# EAGLE library part W25Q16BV (library Semiconductors > Integrated Circuits - ICs > Memory ICs > Flash)
EEPROM 4 Mbit SPI Serial Flash7
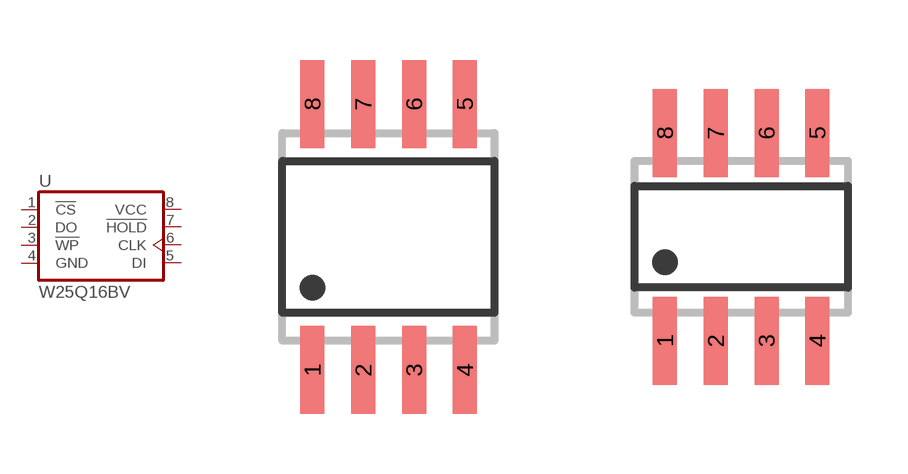
[diagram p1: symbol with the pads of SO08-SS; footprints SO08-SS, SO08]

Designator prefix U

## W25Q16BVSS  [SO08-SS]
1  !CS!  in
2  DO  out
3  !WP!  in
4  GND  pwr
5  DI  in
6  CLK  in
7  !HOLD!  in
8  VCC  pwr

## W25Q16BVSN  [SO08]
Pads as for SO08-SS

## W25Q16BVDA  [DIL08]
Pads as for SO08-SS

## W25Q16BVZP  [WSON8]
1  !CS!  in
2  DO  out
3  !WP!  in
4  GND  pwr
5  DI  in
6  CLK  in
7  !HOLD!  in
8  VCC  pwr
9  GND  pwr

## Footprint SO08-SS (pad centres in mm)
SMALL OUTLINE INTEGRATED CIRCUIT 200 MIL BODY WIDTH (5.2MM X 8MM)
smd 0.6 x 2.2: 1 -1.905,-3.33; 2 -0.635,-3.33; 3 0.635,-3.33; 4 1.905,-3.33; 5 1.905,3.33; 6 0.635,3.33; 7 -0.635,3.33; 8 -1.905,3.33

## Footprint SO08 (pad centres in mm)
SMALL OUTLINE INTEGRATED CIRCUIT 150 mil (3.9 mm) body/JEDEC MS-012AA
smd 0.6 x 2.2: 1 -1.905,-2.6; 2 -0.635,-2.6; 3 0.635,-2.6; 4 1.905,-2.6; 5 1.905,2.6; 6 0.635,2.6; 7 -0.635,2.6; 8 -1.905,2.6

## Footprint DIL08 (pad centres in mm)
Dual In Line Package 300 mil body width
drill 0.813 long: 1 -3.81,-3.81; 2 -1.27,-3.81; 3 1.27,-3.81; 4 3.81,-3.81; 5 3.81,3.81; 6 1.27,3.81; 7 -1.27,3.81; 8 -3.81,3.81

## Footprint WSON8 (pad centres in mm)
8-WSON 8-Contact Very-very-thin Small Outline No-lead body 6.00 x 5.00 mm
smd 0.635 x 1.27: 1 -1.905,-2.81; 2 -0.635,-2.81; 3 0.635,-2.81; 4 1.905,-2.81; 5 1.905,2.81; 6 0.635,2.81; 7 -0.635,2.81; 8 -1.905,2.81
smd 4.3 x 3.4: 9 0,0